# EAGLE library part AD7399 (library analog-devices)
Quad, Serial-Input 12-Bit/10-Bit DACs
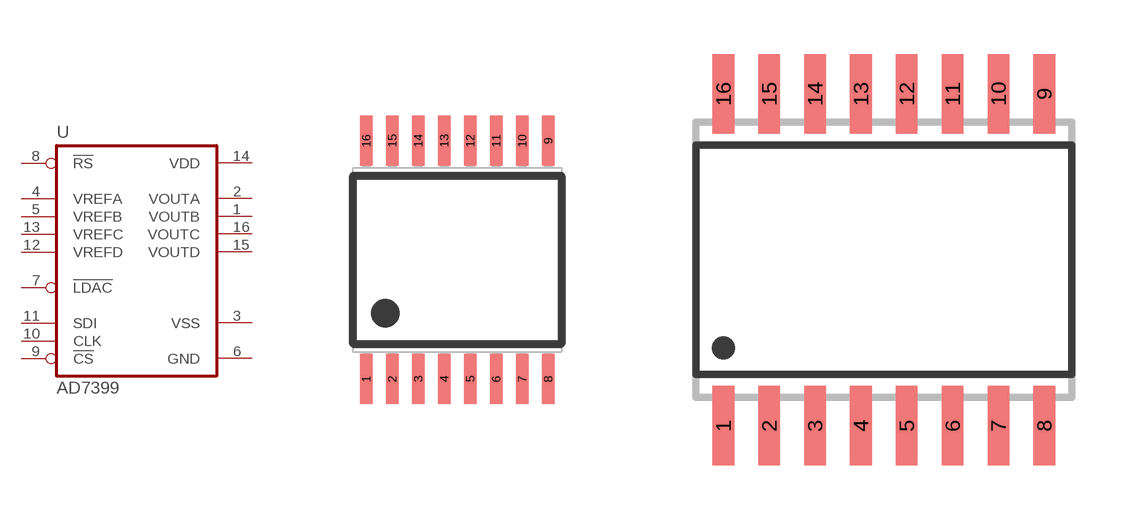
[diagram p27: symbol with the pads of TSSOP16; footprints TSSOP16, SO16W]

Designator prefix U

## AD7399RU  [TSSOP16]
1  VOUTB  out
2  VOUTA  out
3  VSS  pwr
4  VREFA  in
5  VREFB  in
6  GND  pwr
7  !LDAC!  in
8  !RS!  in
9  !CS!  in
10  CLK  in
11  SDI  in
12  VREFD  in
13  VREFC  in
14  VDD  pwr
15  VOUTD  out
16  VOUTC  out

## AD7399R  [SO16W]
Pads as for TSSOP16

## Footprint TSSOP16 (pad centres in mm)
Thin Shrink Small Outline Plastic 16
smd 0.31 x 1.25: 1 -2.275,-2.98; 2 -1.625,-2.98; 3 -0.975,-2.98; 4 -0.325,-2.98; 5 0.325,-2.98; 6 0.975,-2.98; 7 1.625,-2.98; 8 2.275,-2.98; 9 2.275,2.98; 10 1.625,2.98; 11 0.975,2.98; 12 0.325,2.98; 13 -0.325,2.98; 14 -0.975,2.98; 15 -1.625,2.98; 16 -2.275,2.98

## Footprint SO16W (pad centres in mm)
SMALL OUTLINE INTEGRATED CIRCUIT wide body 7.5 mm/JEDEC MS-013AA
smd 0.6 x 2.2: 1 -4.445,-4.6; 2 -3.175,-4.6; 3 -1.905,-4.6; 4 -0.635,-4.6; 5 0.635,-4.6; 6 1.905,-4.6; 7 3.175,-4.6; 8 4.445,-4.6; 9 4.445,4.6; 10 3.175,4.6; 11 1.905,4.6; 12 0.635,4.6; 13 -0.635,4.6; 14 -1.905,4.6; 15 -3.175,4.6; 16 -4.445,4.6